# EAGLE library part TTGO-T8_V13 (library TTGO-T8)
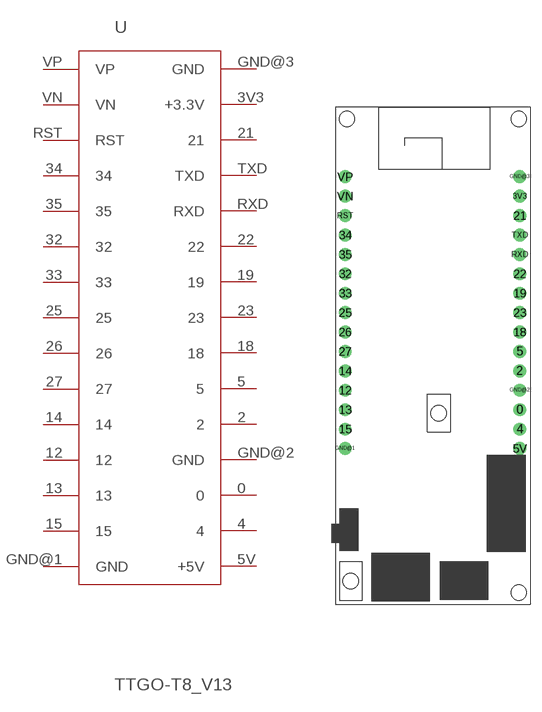
[diagram p3: symbol with the pads of TTGO-T8_V13; footprint TTGO-T8_V13]

Designator prefix -

## TTGO-T8_V13  [TTGO-T8_V13]
0  0
2  2
3V3  +3.3V
4  4
5  5
5V  +5V
12  12
13  13
14  14
15  15
18  18
19  19
21  21
22  22
23  23
25  25
26  26
27  27
32  32
33  33
34  34
35  35
GND@1  GND
GND@2  GND
GND@3  GND
RST  RST
RXD  RXD
TXD  TXD
VN  VN
VP  VP

## Footprint TTGO-T8_V13 (pad centres in mm)
drill 0.8 pad 1.676: 0 24.13,-35.56; 2 24.13,-30.48; 3V3 24.13,-7.62; 4 24.13,-38.1; 5 24.13,-27.94; 5V 24.13,-40.64; 12 1.27,-33.02; 13 1.27,-35.56; 14 1.27,-30.48; 15 1.27,-38.1; 18 24.13,-25.4; 19 24.13,-20.32; 21 24.13,-10.16; 22 24.13,-17.78; 23 24.13,-22.86; 25 1.27,-22.86; 26 1.27,-25.4; 27 1.27,-27.94; 32 1.27,-17.78; 33 1.27,-20.32; 34 1.27,-12.7; 35 1.27,-15.24; GND@1 1.27,-40.64; GND@2 24.13,-33.02; GND@3 24.13,-5.08; RST 1.27,-10.16; RXD 24.13,-15.24; TXD 24.13,-12.7; VN 1.27,-7.62; VP 1.27,-5.08